# Altium footprint library switch.PcbLib: 36 footprints (part 3 of 3)
Each footprint in its own frame and in the unit in brackets; x right, y up, seen from the top. Pads: shape width x height; smd on the part's side, far side on the other; paste and mask are expansions set on the pad; w line width, h text height; cw(c..) or ccw(c..) is an arc to the next point about the centre after c.
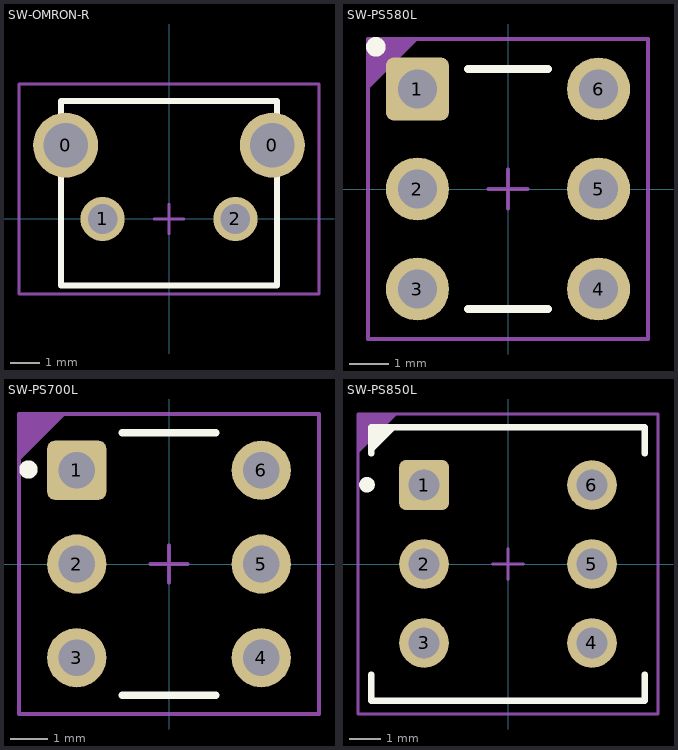
[diagram p2: the footprints below, top view; thin cyan lines are the x and y axes]

## SW-OMRON-R [mm]
pads (4):
  round 2.2 hole 1.5: 0(-3.5,2.5) 0(3.5,2.5)
  round 1.5 hole 1: 1(-2.25,0) 2(2.25,0)
Top Overlay:
  lines w0.203: -3.65,-2.25 -3.65,4 3.65,4 3.65,-2.25 -3.65,-2.25
Mechanical 13:
  lines w0.1: -5.08,-2.54 5.08,-2.54 5.08,4.572 -5.08,4.572 -5.08,-2.54
  text ".Designator" at -3.302,0 h2
Mechanical 15:
  lines w0.05: -5.08,-2.54 -5.08,4.572 5.08,4.572 5.08,-2.54 -5.08,-2.54
  lines w0.1: -0.5,0 0.5,0 ; 0,-0.5 0,0.5

## SW-PS580L [mm]
pads (6):
  rrect25% 1.6x1.6 hole 1: 1(-2.3,2.54)
  round 1.6 hole 1: 2(-2.3,0) 3(-2.3,-2.54) 4(2.3,-2.54) 5(2.3,0) 6(2.3,2.54)
Top Overlay:
  circle w0.25: c-3.357,3.61 r0.125
  lines w0.2: -1.016,-3.048 1.016,-3.048 ; -1.016,3.048 1.016,3.048
Mechanical 13:
  region: -3.556,3.81 -3.556,2.54 -2.286,3.81
  lines w0.1: -3.556,-3.81 -3.556,3.81 3.556,3.81 3.556,-3.81 -3.556,-3.81
  text ".Designator" at -2.54,-0.762 h1.6
Mechanical 15:
  lines w0.05: -3.556,-3.81 -3.556,3.81 3.556,3.81 3.556,-3.81 -3.556,-3.81
  lines w0.1: -0.5,0 0.5,0 ; 0,-0.5 0,0.5
3D body: height 5, standoff 0.1, extent -3,-3 3,3
3D body: height 10, standoff 5, extent -1.8,-1.4 1.8,1.4

## SW-PS700L [mm]
pads (6):
  rrect25% 1.6x1.6 hole 1: 1(-2.5,2.54)
  round 1.6 hole 1: 2(-2.5,0) 3(-2.5,-2.54) 4(2.5,-2.54) 5(2.5,0) 6(2.5,2.54)
Top Overlay:
  circle w0.25: c-3.807,2.56 r0.125
  lines w0.2: -1.27,-3.556 1.27,-3.556 ; -1.27,3.556 1.27,3.556
Mechanical 13:
  region: -4.064,4.064 -4.064,2.794 -2.794,4.064
  lines w0.1: -4.064,-4.064 -4.064,4.064 4.064,4.064 4.064,-4.064 -4.064,-4.064
  text ".Designator" at -2.54,-0.762 h1.6
Mechanical 15:
  lines w0.05: -4.064,-4.064 -4.064,4.064 4.064,4.064 4.064,-4.064 -4.064,-4.064
  lines w0.1: -0.5,0 0.5,0 ; 0,-0.5 0,0.5
3D body: height 7, standoff 0.1, extent -3.6,-3.6 3.6,3.6
3D body: height 12.5, standoff 7, extent -2.032,-2.032 2.032,2.032

## SW-PS850L [mm]
pads (6):
  rrect25% 1.6x1.6 hole 1: 1(-2.7,2.54)
  round 1.6 hole 1: 2(-2.7,0) 3(-2.7,-2.54) 4(2.7,-2.54) 5(2.7,0) 6(2.7,2.54)
Top Overlay:
  circle w0.25: c-4.537,2.55 r0.125
  region: -4.4,3.556 -4.4,4.4 -3.556,4.4
  lines w0.2: -4.4,-3.556 -4.4,-4.4 4.4,-4.4 4.4,-3.556 ; -4.4,3.556 -4.4,4.4 4.4,4.4 4.4,3.556
Mechanical 13:
  region: -4.826,4.826 -4.826,3.556 -3.556,4.826
  lines w0.1: -4.826,-4.826 4.826,-4.826 4.826,4.826 -4.826,4.826 -4.826,-4.826
  text ".Designator" at -3.22,-0.94 h2
Mechanical 15:
  lines w0.05: -4.826,-4.826 4.826,-4.826 4.826,4.826 -4.826,4.826 -4.826,-4.826
  lines w0.1: -0.5,0 0.5,0 ; 0,-0.5 0,0.5
3D body: height 14, standoff 8, extent -2.032,-2.032 2.032,2.032
3D body: height 8.5, standoff 0.1, extent -4.4,-4.4 4.4,4.4